# Altium schematic symbol library Schlib1.SchLib: 40 symbols
Pins are listed as number, name and electrical type; pins without a type are passive.

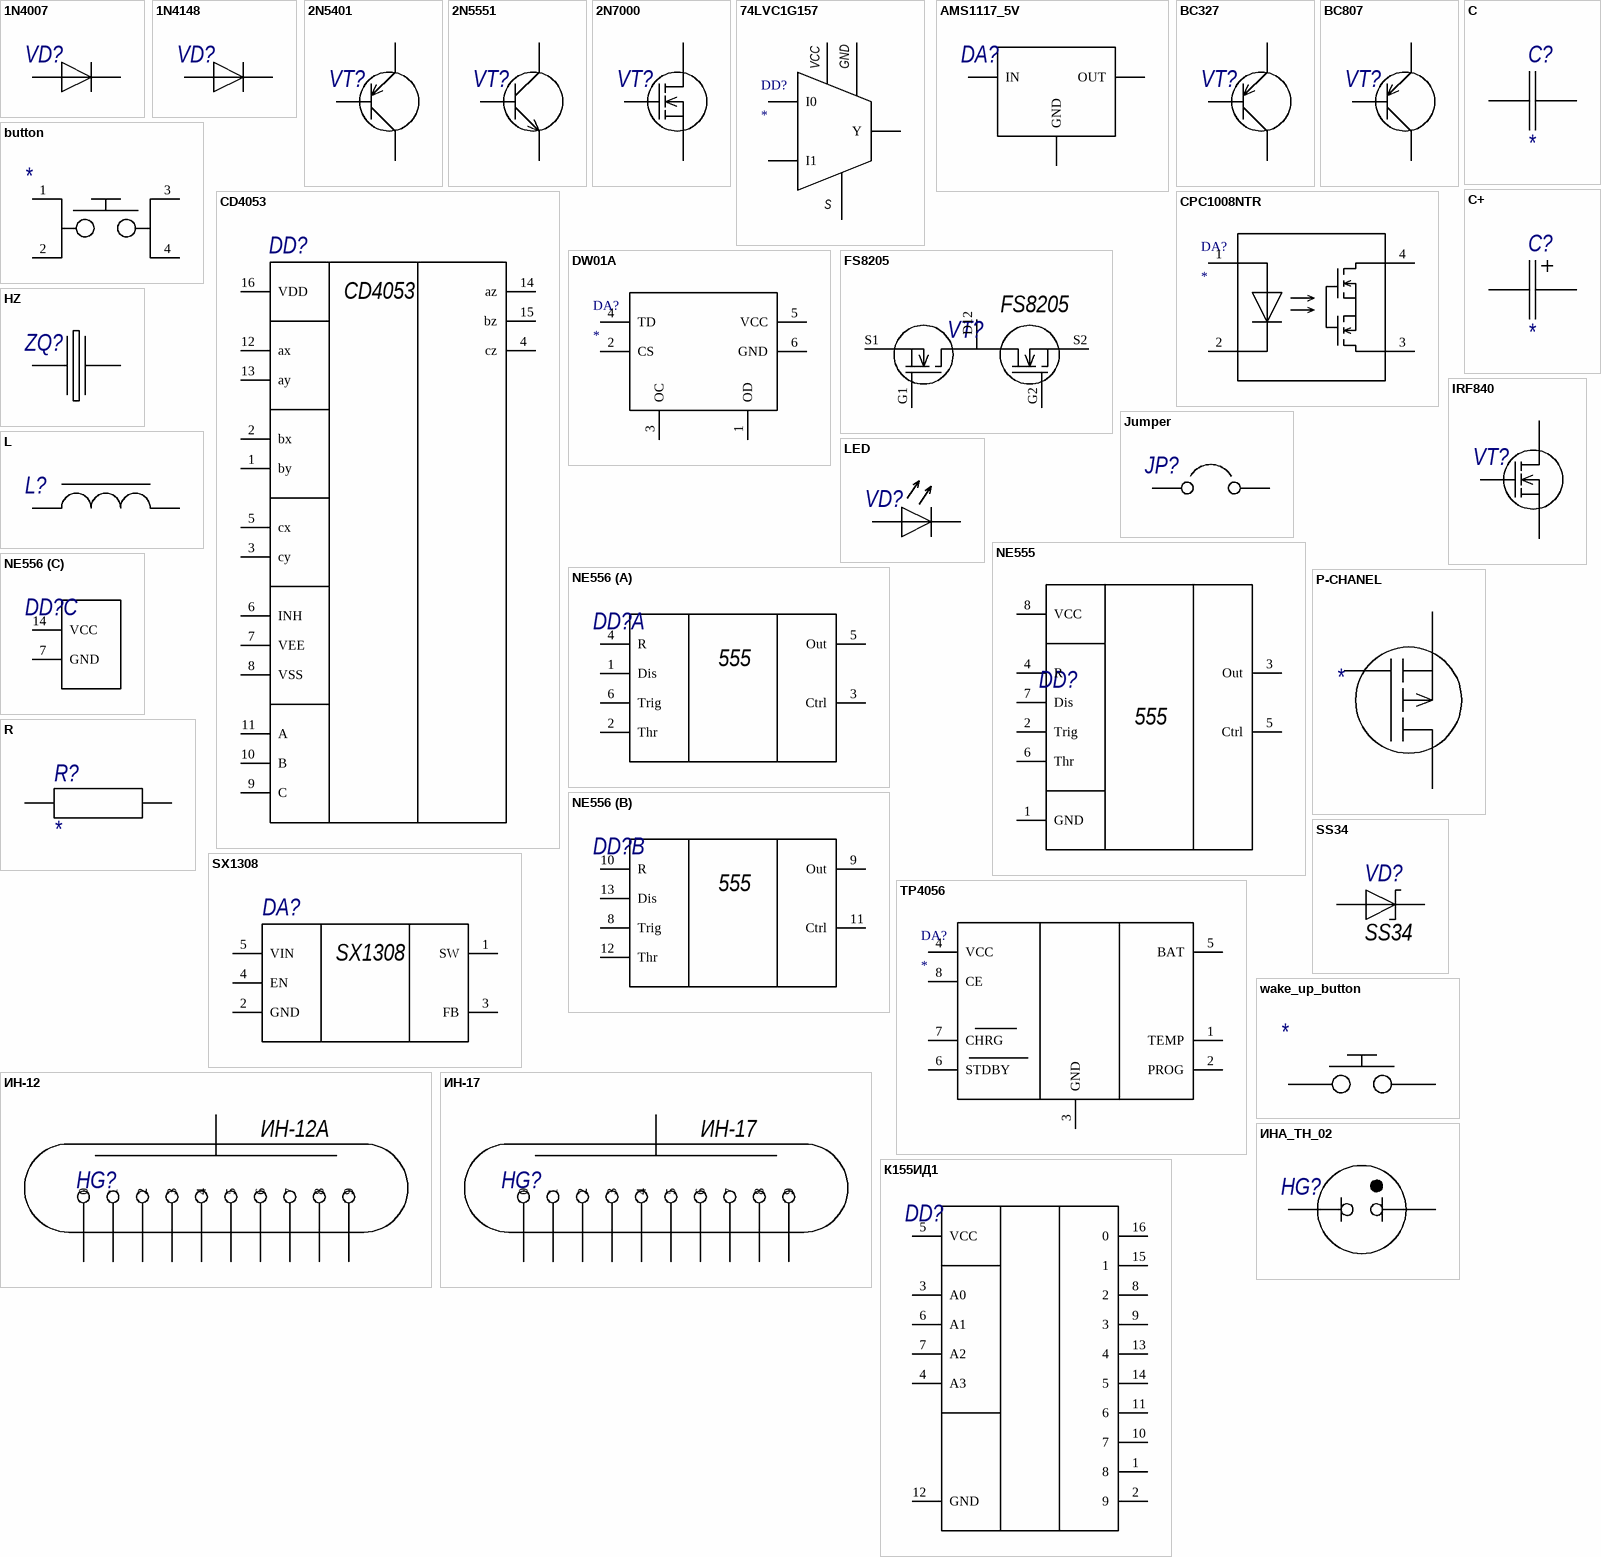
[diagram p0: symbols 1N4007 to К155ИД1]

## 1N4007
designator VD?  (value not drawn)
footprint RES-DIP
pins: 1 K, 2 A

## 1N4148
designator VD?  (value not drawn)
footprint 1N4148
pins: 1 K, 2 A

## 2N5401
designator VT?  (value not drawn)
footprint 2N5401
pins: 1 E, 2 B, 3 C

## 2N5551
designator VT?  (value not drawn)
footprint 2N5551
pins: 1 E, 2 B, 3 C

## 2N7000
designator VT?  (value not drawn)
footprint 2N7000
pins: 1 S, 2 G, 3 D

## 74LVC1G157
designator DD?
pins: 1 I1, 2 GND, 3 I0, 4 Y, 5 VCC, 6 S

## AMS1117_5V
designator DA?  (value not drawn)
footprint SOT230 (SOT223, 4-Leads, Body 6,50x7,00mm (avg), Pitch 2,30mm, IPC Medium Density)
pins: 1 GND, 2 OUT, 3 IN

## BC327
designator VT?  (value not drawn)
footprint BC327
pins: 1 C, 2 B, 3 E

## BC807
designator VT?  (value not drawn)
footprint SOT95 (SOT23, 3-Leads, Body 2,90x2,30mm, Pitch 0,95mm, IPC Medium Density)
pins: 1 B, 2 E, 3 C

## button
designator *  (value not drawn)
footprint button
pins: 1, 2, 3, 4

## C
designator C?
Value: *
footprint CAP_THT
pins: 1, 2

## C+
designator C?
Value: *
footprint CAP_POL
pins: 1, 2

## CD4053
designator DD?  Name: CD4053  (hidden comment: *)
footprint DIP-16
pins: 1 by, 2 bx, 3 cy, 4 cz, 5 cx, 6 INH, 7 VEE, 8 VSS, 9 C, 10 B, 11 A, 12 ax, 13 ay, 14 az, 15 bz, 16 VDD

## CPC1008NTR
designator DA?
Name: CPC1008NTR
footprint CPC1008NTR
pins: 1, 2, 3, 4

## DW01A
designator DA?
footprint SOT23-6 (SOT23, 6-Leads, Body 2,85x2,80mm, Pitch 0,95mm, IPC Medium Density)
pins: 1 OD, 2 CS, 3 OC, 4 TD, 5 VCC, 6 GND

## FS8205
designator VT?, comment value FS8205  (hidden comment: FS8205 Fortune)
Manufacturer: Fortune; ComponentLink1Description: Datasheet; ComponentLink1URL: https://datasheet.lcsc.com/szlcsc/Fortune-Semicon-FS8205_C32254.pdf; Part Number: FS8205
footprint TSSOP8
pins: 5 D12, D12, G1, G2, S1, S2

## HZ
designator ZQ?  (value not drawn)
footprint HZ
pins: 1, 2

## IRF840
designator VT?  (value not drawn)
footprint IRF840
pins: 1 G, 2 D, 3 S

## Jumper
designator JP?  (value not drawn)  (no BOM)
footprint JP (Chip Resistor, 2-Leads, Body 2,00x1,25mm, IPC Medium Density)
pins: 1, 2

## L
designator L?  (value not drawn)
footprint IND
pins: 1, 2

## LED
designator VD?  (value not drawn)
footprint LED_RED
pins: 1 K, 2 A

## NE555
designator DD?  (value not drawn)
footprint DIP-8
pins: 1 GND, 2 Trig, 3 Out, 4 R, 5 Ctrl, 6 Thr, 7 Dis, 8 VCC
text: 555

## NE556
designator DD?  (value not drawn)
footprint DIP-14
part A pins: 1 Dis, 2 Thr, 3 Ctrl, 4 R, 5 Out, 6 Trig
part B pins: 8 Trig, 9 Out, 10 R, 11 Ctrl, 12 Thr, 13 Dis
part C pins: 7 GND, 14 VCC
part A text: 555
part B text: 555

## P-CHANEL
designator *  (value not drawn)
pins: 1, 2, 3

## R
designator R?
Value: *
footprint RES-DIP
pins: 1, 2

## SS34
designator VD?  Name: SS34  (hidden comment: *)
footprint DIOD (Molded Diode, 2-Leads, Body 4,40x3,63mm, IPC Medium Density)
pins: 1 K, 2 A

## SX1308
designator DA?  Name: SX1308  (hidden comment: *)
footprint SOT23-6 (SOT23, 6-Leads, Body 2,85x2,80mm, Pitch 0,95mm, IPC Medium Density)
pins: 1 SW, 2 GND, 3 FB, 4 EN, 5 VIN

## TP4056
designator DA?
footprint SOIC-8 (SOIC, 8-Leads, Body 4,88x3,90mm, Pitch 1,27mm, IPC Medium Density)
pins: 1 TEMP, 2 PROG, 3 GND, 4 VCC, 5 BAT, 6 STDBY, 7 CHRG, 8 CE

## wake_up_button
designator *  (value not drawn)
footprint WAKE-UP-BUTTON
pins: 1, 2

## ИН-12
designator HG?  (value not drawn)
footprint IN-12
pins: 1 12, 2 0, 3 9, 4 8, 5 7, 6, 7 5, 8 4, 9 3, 10 2, 11 1
text: ИН-12А

## ИН-17
designator HG?  (value not drawn)
footprint IN-17
pins: 1 12, 2 0, 3 1, 4 2, 5 3, 6 4, 7 5, 8 6, 9 7, 10 8, 11 9

## ИНА_ТН_02
designator HG?  (value not drawn)
footprint INA_TN_02
pins: 1 A, 2 K

## К155ИД1
designator DD?  (value not drawn)
footprint DIP-16
pins: 1 8, 2 9, 3 A0, 4 A3, 5 VCC, 6 A1, 7 A2, 8 2, 9 3, 10 7, 11 6, 12 GND, 13 4, 14 5, 15 1, 16 0

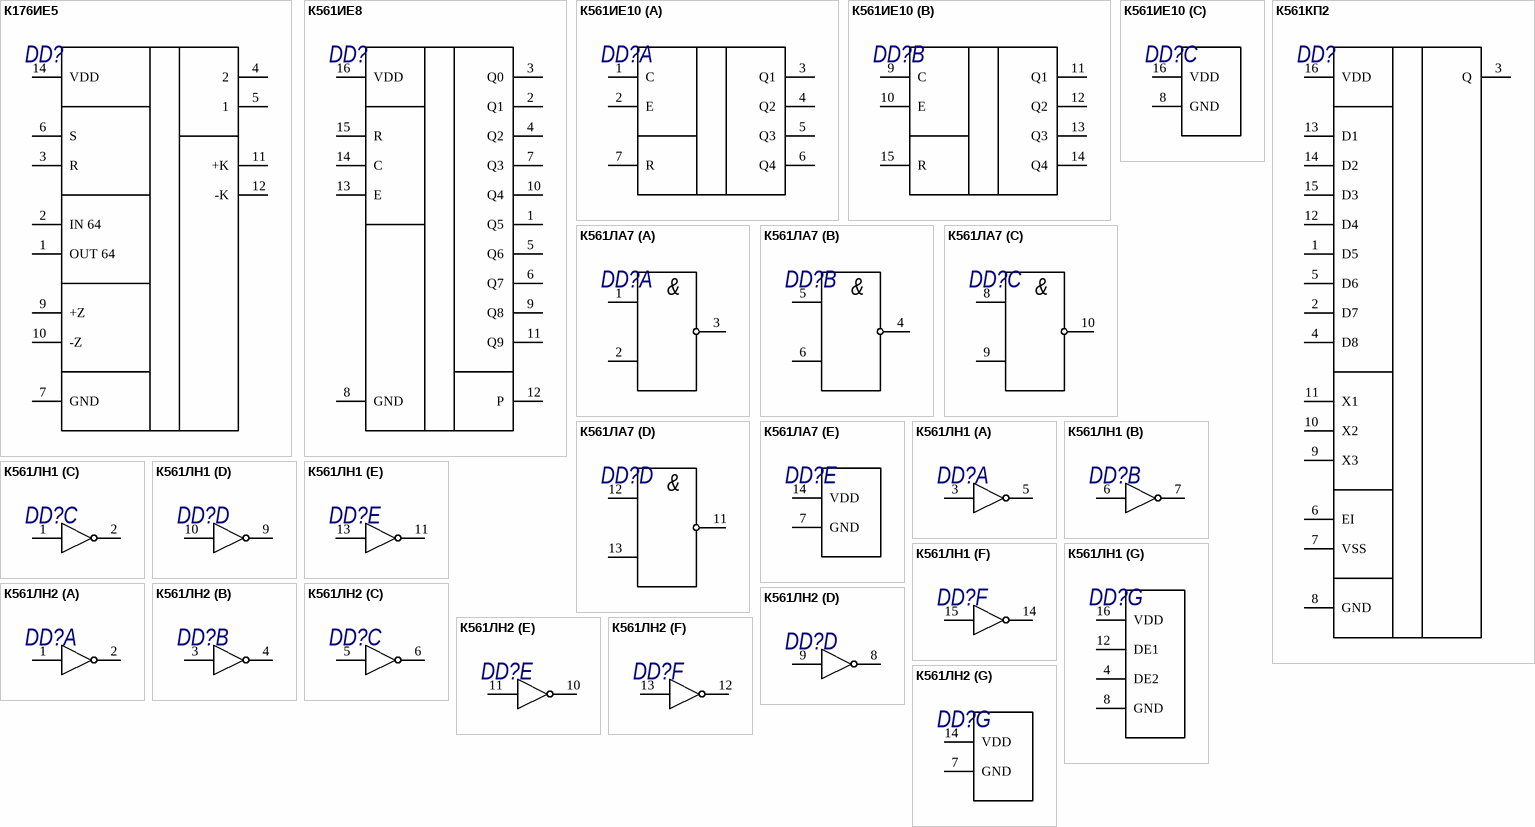
[diagram p1: symbols К176ИЕ5 to К561ЛН2]

## К176ИЕ5
designator DD?  (value not drawn)
footprint DIP-14
pins: 1 OUT 64, 2 IN 64, 3 R, 4 2, 5 1, 6 S, 7 GND, 9 +Z, 10 -Z, 11 +K, 12 -K, 14 VDD

## К561ИЕ8
designator DD?  (value not drawn)
footprint DIP-16
pins: 1 Q5, 2 Q1, 3 Q0, 4 Q2, 5 Q6, 6 Q7, 7 Q3, 8 GND, 9 Q8, 10 Q4, 11 Q9, 12 P, 13 E, 14 C, 15 R, 16 VDD

## К561ИЕ10
designator DD?  (value not drawn)
footprint DIP-16
part A pins: 1 C, 2 E, 3 Q1, 4 Q2, 5 Q3, 6 Q4, 7 R
part B pins: 9 C, 10 E, 11 Q1, 12 Q2, 13 Q3, 14 Q4, 15 R
part C pins: 8 GND, 16 VDD

## К561КП2
designator DD?  (value not drawn)
footprint DIP-16
pins: 1 D5, 2 D7, 3 Q, 4 D8, 5 D6, 6 EI, 7 VSS, 8 GND, 9 X3, 10 X2, 11 X1, 12 D4, 13 D1, 14 D2, 15 D3, 16 VDD

## К561ЛА7
designator DD?  (value not drawn)
footprint DIP-14
part A pins: 1, 2, 3
part B pins: 4 3, 5 1, 6 2
part C pins: 8 1, 9 2, 10 3
part D pins: 11 3, 12 1, 13 2
part E pins: 7 GND, 14 VDD
part A text: &
part B text: &
part C text: &
part D text: &

## К561ЛН1
designator DD?  (value not drawn)
footprint DIP-16
part A pins: 3 IN1, 5 OUT1
part B pins: 6 IN2, 7 OUT2
part C pins: 1 IN3, 2 OUT3
part D pins: 9 OUT4, 10 IN4
part E pins: 11 OUT5, 13 IN5
part F pins: 14 OUT6, 15 IN6
part G pins: 4 DE2, 8 GND, 12 DE1, 16 VDD

## К561ЛН2
designator DD?  (value not drawn)
footprint DIP-14
part A pins: 1, 2
part B pins: 3, 4
part C pins: 5, 6
part D pins: 8, 9
part E pins: 10, 11
part F pins: 12, 13
part G pins: 7 GND, 14 VDD